# Altium footprint library 15_to_28_Pin.PcbLib: 49 footprints (part 3 of 4)
Each footprint in its own frame and in the unit in brackets; x right, y up, seen from the top. Pads: shape width x height; smd on the part's side, far side on the other; paste and mask are expansions set on the pad; w line width, h text height; cw(c..) or ccw(c..) is an arc to the next point about the centre after c.
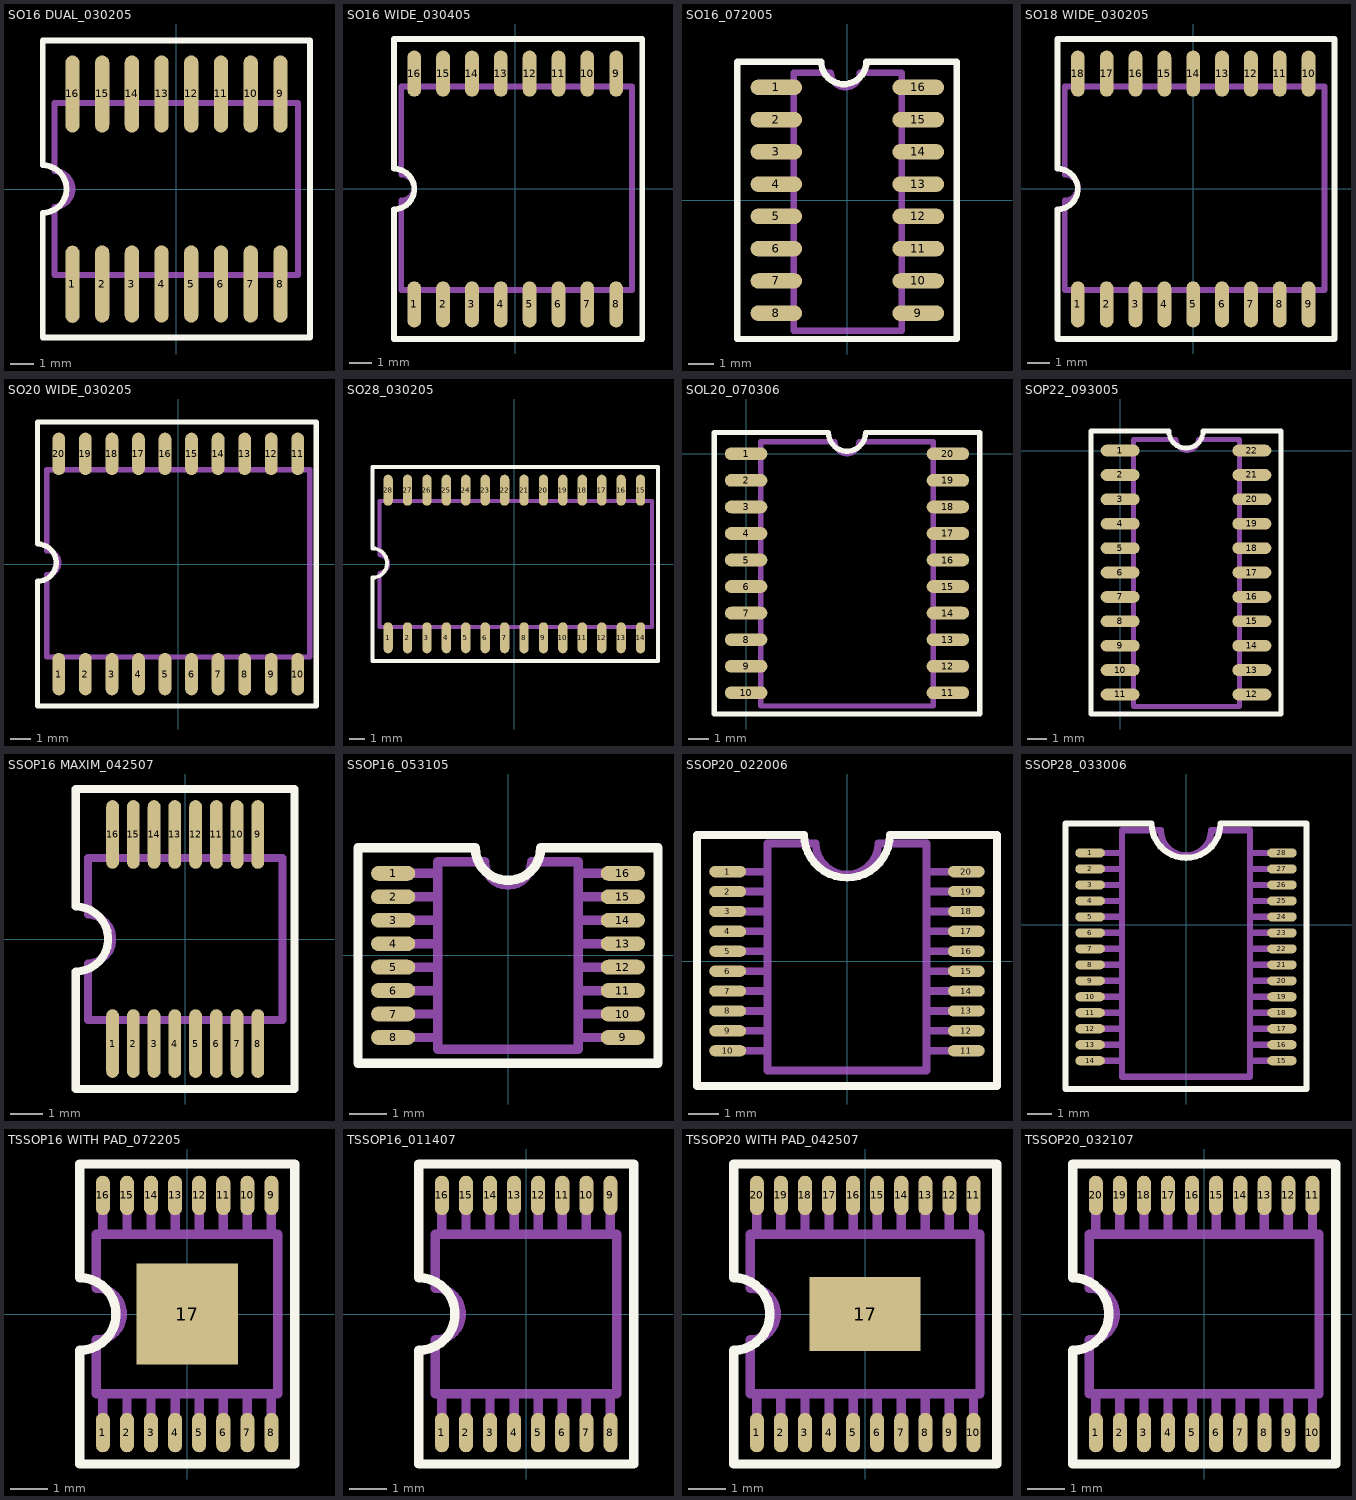
[diagram p2: the footprints below, top view; thin cyan lines are the x and y axes]

## SO16 DUAL_030205 [mil] "SMT"
height 100
pads (16):
  oval 24x130 smd mask+1.5: 1(-175,-160.16) 2(-125,-159.84) 3(-75,-159.84) 4(-25,-159.84) 5(25,-159.84) 6(75,-159.84) 7(125,-159.84) 8(175,-159.84) 9(175,160.16) 10(125,160.16) 11(75,160.16) 12(25,160.16) 13(-25,160.16) 14(-75,160.16) 15(-125,160.16) 16(-175,160.16)
Top Overlay:
  lines w10: -225,-249.84 225,-249.84 225,250.16 -225,250.16 -225,40.16 cw(c-225,0.16) -225,-39.84 -225,-249.84
Assembly Outline:
  lines w8: -175,-189.84 -175,-144.84 ; -175,145.16 -175,190.16 ; -125,-189.84 -125,-144.84 ; -125,145.16 -125,190.16 ; -75,-189.84 -75,-144.84 ; -75,145.16 -75,190.16 ; -25,-189.84 -25,-144.84 ; -25,145.16 -25,190.16 ; 25,-189.84 25,-144.84 ; 25,145.16 25,190.16 ; 75,-189.84 75,-144.84 ; 75,145.16 75,190.16 ; 125,-189.84 125,-144.84 ; 125,145.16 125,190.16 ; 175,-189.84 175,-144.84 ; 175,145.16 175,190.16
  lines w10: -205,-144.84 -205,-29.84 ccw(c-205,0.16) -205,30.16 -205,145.16 205,145.16 205,-144.84 -205,-144.84
Assembly Designator:
  text ".Designator" at -64,-13 h40
Assembly Comment:
  text ".Comment" at -157.48,-68.9 h40

## SO16 WIDE_030405 [mil] "SMT"
height 100
pads (16):
  oval 24x80 smd mask+1.5: 1(-175,-200) 2(-125,-200) 3(-75,-200) 4(-25,-200) 5(25,-200) 6(75,-200) 7(125,-200) 8(175,-200) 9(175,200) 10(125,200) 11(75,200) 12(25,200) 13(-25,200) 14(-75,200) 15(-125,200) 16(-175,200)
Top Overlay:
  lines w10: -210,-260 220,-260 220,260 -210,260 -210,35 cw(c-210,0) -210,-35 -210,-140 -210,-260
Assembly Outline:
  lines w10: -180,177.5 -180,205 -170,205 -170,177.5 ; -170,-175 -170,-202.5 -180,-202.5 -180,-175 ; -130,-175 -130,-202.5 -120,-202.5 -120,-175 ; -130,177.5 -130,205 -120,205 -120,177.5 ; -80,-175 -80,-202.5 -70,-202.5 -70,-175 ; -80,177.5 -80,205 -70,205 -70,177.5 ; -30,-175 -30,-202.5 -20,-202.5 -20,-175 ; -30,177.5 -30,205 -20,205 -20,177.5 ; 20,-175 20,-202.5 30,-202.5 30,-175 ; 20,177.5 20,205 30,205 30,177.5 ; 70,-175 70,-202.5 80,-202.5 80,-175 ; 70,177.5 70,205 80,205 80,177.5 ; 120,-175 120,-202.5 130,-202.5 130,-175 ; 120,177.5 120,205 130,205 130,177.5 ; 170,-175 170,-202.5 180,-202.5 180,-175 ; 170,177.5 170,205 180,205 180,177.5 ; -180,-175 -197.5,-175 -197.5,-117.5 -197.5,-20 ccw(c-197.5,2.5) -197.5,25 -197.5,177.5 202.5,177.5 202.5,-175 -180,-175
Assembly Designator:
  text ".Designator" at -47,-15 h40
Assembly Comment:
  text ".Comment" at -166,-140 h40

## SO16_072005 [mil] "SM"
height 70
pads (16):
  oval 80x24 smd mask+1.5: 1(-110,175) 2(-110,125) 3(-110,75) 4(-110,25) 5(-110,-25) 6(-110,-75) 7(-110,-125) 8(-110,-175) 9(110,-175) 10(110,-125) 11(110,-75) 12(110,-25) 13(110,25) 14(110,75) 15(110,125) 16(110,175)
Top Overlay:
  lines w10: -170.46,-215 169.54,-215 169.54,215 29.54,215 cw(c-5.46,215) -40.46,215 -170.46,215 -170.46,-215
Assembly Outline:
  lines w10: -82.96,-180 -110.46,-180 -110.46,-170 -82.96,-170 ; -82.96,-130 -110.46,-130 -110.46,-120 -82.96,-120 ; -82.96,-80 -110.46,-80 -110.46,-70 -82.96,-70 ; -82.96,-30 -110.46,-30 -110.46,-20 -82.96,-20 ; -82.96,20 -110.46,20 -110.46,30 -82.96,30 ; -82.96,70 -110.46,70 -110.46,80 -82.96,80 ; -82.96,120 -110.46,120 -110.46,130 -82.96,130 ; -82.96,170 -110.46,170 -110.46,180 -82.96,180 ; 84.54,-180 112.04,-180 112.04,-170 84.54,-170 ; 84.54,-130 112.04,-130 112.04,-120 84.54,-120 ; 84.54,-80 112.04,-80 112.04,-70 84.54,-70 ; 84.54,-30 112.04,-30 112.04,-20 84.54,-20 ; 84.54,20 112.04,20 112.04,30 84.54,30 ; 84.54,70 112.04,70 112.04,80 84.54,80 ; 84.54,120 112.04,120 112.04,130 84.54,130 ; 84.54,170 112.04,170 112.04,180 84.54,180 ; -82.96,180 -82.96,-202.5 84.54,-202.5 84.54,197.5 19.54,197.5 cw(c-2.96,197.5) -25.46,197.5 -82.96,197.5 -82.96,180
Assembly Designator:
  text ".Designator" at -47.46,-13.98 h40
Assembly Comment:
  text ".Comment" at -149.83,-262.01 h40

## SO18 WIDE_030205 [mil] "SMT"
height 100
pads (18):
  oval 24x80 smd mask+1.5: 1(-200,-200) 2(-150,-200) 3(-100,-200) 4(-50,-200) 5(0,-200) 6(50,-200) 7(100,-200) 8(150,-200) 9(200,-200) 10(200,200) 11(150,200) 12(100,200) 13(50,200) 14(0,200) 15(-50,200) 16(-100,200) 17(-150,200) 18(-200,200)
Top Overlay:
  lines w10: -235,-260 -235,-140 -235,-35 ccw(c-235,0) -235,35 -235,260 245,260 245,-260 -235,-260
Assembly Outline:
  lines w10: -205,177.5 -205,205 -195,205 -195,177.5 ; -195,-175 -195,-202.5 -205,-202.5 -205,-175 ; -155,-175 -155,-202.5 -145,-202.5 -145,-175 ; -155,177.5 -155,205 -145,205 -145,177.5 ; -105,-175 -105,-202.5 -95,-202.5 -95,-175 ; -105,177.5 -105,205 -95,205 -95,177.5 ; -55,-175 -55,-202.5 -45,-202.5 -45,-175 ; -55,177.5 -55,205 -45,205 -45,177.5 ; -5,-175 -5,-202.5 5,-202.5 5,-175 ; -5,177.5 -5,205 5,205 5,177.5 ; 45,-175 45,-202.5 55,-202.5 55,-175 ; 45,177.5 45,205 55,205 55,177.5 ; 95,-175 95,-202.5 105,-202.5 105,-175 ; 95,177.5 95,205 105,205 105,177.5 ; 195,-175 195,-202.5 205,-202.5 205,-175 ; 195,177.5 195,205 205,205 205,177.5 ; -205,-175 227.5,-175 227.5,177.5 -222.5,177.5 -222.5,25 cw(c-222.5,2.5) -222.5,-20 -222.5,-117.5 -222.5,-175 -205,-175 ; 145,-202.5 155,-202.5 ; 145,-202.5 145,-175 145,-202.5 ; 145,-202.5 155,-202.5 ; 145,205 155,205 ; 145,205 145,177.5 145,205 ; 145,205 155,205 ; 155,-202.5 155,-175 155,-202.5 ; 155,205 155,177.5 155,205
Assembly Designator:
  text ".Designator" at -63,-15 h40
Assembly Comment:
  text ".Comment" at -202,-143 h40

## SO20 WIDE_030205 [mil] "SMT"
height 100
pads (20):
  oval 24x80 smd mask+1.5: 1(-225,-207.5) 2(-175,-207.5) 3(-125,-207.5) 4(-75,-207.5) 5(-25,-207.5) 6(25,-207.5) 7(75,-207.5) 8(125,-207.5) 9(175,-207.5) 10(225,-207.5) 11(225,207.5) 12(175,207.5) 13(125,207.5) 14(75,207.5) 15(25,207.5) 16(-25,207.5) 17(-75,207.5) 18(-125,207.5) 19(-175,207.5) 20(-225,207.5)
Top Overlay:
  lines w10: -265,-267.5 -265,-147.5 -265,-32.5 ccw(c-265,2.5) -265,37.5 -265,267.5 260,267.5 260,-267.5 -265,-267.5
Assembly Outline:
  lines w10: -230,177.5 -230,205 -220,205 -220,177.5 ; -220,-175 -220,-202.5 -230,-202.5 -230,-175 ; -180,-175 -180,-202.5 -170,-202.5 -170,-175 ; -180,177.5 -180,205 -170,205 -170,177.5 ; -130,-175 -130,-202.5 -120,-202.5 -120,-175 ; -130,177.5 -130,205 -120,205 -120,177.5 ; -80,-175 -80,-202.5 -70,-202.5 -70,-175 ; -80,177.5 -80,205 -70,205 -70,177.5 ; -30,-175 -30,-202.5 -20,-202.5 -20,-175 ; -30,177.5 -30,205 -20,205 -20,177.5 ; 20,-175 20,-202.5 30,-202.5 30,-175 ; 20,177.5 20,205 30,205 30,177.5 ; 70,-175 70,-202.5 80,-202.5 80,-175 ; 70,177.5 70,205 80,205 80,177.5 ; 120,-175 120,-202.5 130,-202.5 130,-175 ; 120,177.5 120,205 130,205 130,177.5 ; 170,-175 170,-202.5 180,-202.5 180,-175 ; 170,177.5 170,205 180,205 180,177.5 ; 220,-175 220,-202.5 230,-202.5 230,-175 ; 220,177.5 220,205 230,205 230,177.5 ; -230,-175 247.5,-175 247.5,177.5 -247.5,177.5 -247.5,25 cw(c-247.5,2.5) -247.5,-20 -247.5,-117.5 -247.5,-175 -230,-175
Assembly Designator:
  text ".Designator" at -72,-16 h40
Assembly Comment:
  text ".Comment" at -228,-142 h40

## SO28_030205 [mil] "SMT"
height 100
pads (28):
  oval 24x80 smd mask+1.5: 1(-325,-190) 2(-275,-190) 3(-225,-190) 4(-175,-190) 5(-125,-190) 6(-75,-190) 7(-25,-190) 8(25,-190) 9(75,-190) 10(125,-190) 11(175,-190) 12(225,-190) 13(275,-190) 14(325,-190) 15(325,190) 16(275,190) 17(225,190) 18(175,190) 19(125,190) 20(75,190) 21(25,190) 22(-25,190) 23(-75,190) 24(-125,190) 25(-175,190) 26(-225,190) 27(-275,190) 28(-325,190)
Top Overlay:
  lines w10: -365,-250 370,-250 370,250 -365,250 -365,40 cw(c-365,2.5) -365,-35 -365,-250
Assembly Outline:
  lines w10: -330,162.5 -330,190 -320,190 -320,162.5 ; -320,-162.5 -320,-190 -330,-190 -330,-162.5 ; -280,-162.5 -280,-190 -270,-190 -270,-162.5 ; -280,162.5 -280,190 -270,190 -270,162.5 ; -230,-162.5 -230,-190 -220,-190 -220,-162.5 ; -230,162.5 -230,190 -220,190 -220,162.5 ; -180,-162.5 -180,-190 -170,-190 -170,-162.5 ; -180,162.5 -180,190 -170,190 -170,162.5 ; -130,-162.5 -130,-190 -120,-190 -120,-162.5 ; -130,162.5 -130,190 -120,190 -120,162.5 ; -80,-162.5 -80,-190 -70,-190 -70,-162.5 ; -80,162.5 -80,190 -70,190 -70,162.5 ; -30,-162.5 -30,-190 -20,-190 -20,-162.5 ; -30,162.5 -30,190 -20,190 -20,162.5 ; 20,-162.5 20,-190 30,-190 30,-162.5 ; 20,162.5 20,190 30,190 30,162.5 ; 70,-162.5 70,-190 80,-190 80,-162.5 ; 70,162.5 70,190 80,190 80,162.5 ; 120,-162.5 120,-190 130,-190 130,-162.5 ; 120,162.5 120,190 130,190 130,162.5 ; 170,-162.5 170,-190 180,-190 180,-162.5 ; 170,162.5 170,190 180,190 180,162.5 ; 220,-162.5 220,-190 230,-190 230,-162.5 ; 220,162.5 220,190 230,190 230,162.5 ; 270,-162.5 270,-190 280,-190 280,-162.5 ; 270,162.5 270,190 280,190 280,162.5 ; 320,-162.5 320,-190 330,-190 330,-162.5 ; 320,162.5 320,190 330,190 330,162.5 ; -330,-162.5 355,-162.5 355,162.5 -347.5,162.5 -347.5,22.5 cw(c-347.5,0) -347.5,-22.5 -347.5,-162.5 -330,-162.5
Assembly Designator:
  text ".Designator" at -62,-15 h40
Assembly Comment:
  text ".Comment" at -315,-128 h40

## SOL20_070306 [mil] "SMT"
pads (20):
  oval 80x24 smd: 1(0.01,0) 2(0.01,-50) 3(0.01,-100) 4(0.01,-150) 5(0.01,-200) 6(0.01,-250) 7(0.01,-300) 8(0.01,-350) 9(0.01,-400) 10(0.01,-450) 11(380.01,-450) 12(380.01,-400) 13(380.01,-350) 14(380.01,-300) 15(380.01,-250) 16(380.01,-200) 17(380.01,-150) 18(380.01,-100) 19(380.01,-50) 20(380.01,0)
Top Overlay:
  lines w10: -60,-490 440,-490 440,40 225,40 cw(c190,40) 155,40 -60,40 -60,-490
Assembly Outline:
  lines w10: 27.5,-455 0,-455 0,-445 27.5,-445 ; 27.5,-405 0,-405 0,-395 27.5,-395 ; 27.5,-355 0,-355 0,-345 27.5,-345 ; 27.5,-305 0,-305 0,-295 27.5,-295 ; 27.5,-255 0,-255 0,-245 27.5,-245 ; 27.5,-205 0,-205 0,-195 27.5,-195 ; 27.5,-155 0,-155 0,-145 27.5,-145 ; 27.5,-105 0,-105 0,-95 27.5,-95 ; 27.5,-55 0,-55 0,-45 27.5,-45 ; 27.5,-5 0,-5 0,5 27.5,5 ; 352.5,-455 380,-455 380,-445 352.5,-445 ; 352.5,-405 380,-405 380,-395 352.5,-395 ; 352.5,-355 380,-355 380,-345 352.5,-345 ; 352.5,-305 380,-305 380,-295 352.5,-295 ; 352.5,-255 380,-255 380,-245 352.5,-245 ; 352.5,-205 380,-205 380,-195 352.5,-195 ; 352.5,-155 380,-155 380,-145 352.5,-145 ; 352.5,-105 380,-105 380,-95 352.5,-95 ; 352.5,-55 380,-55 380,-45 352.5,-45 ; 352.5,-5 380,-5 380,5 352.5,5 ; 27.5,5 27.5,-475 352.5,-475 352.5,22.5 212.5,22.5 cw(c190,22.5) 167.5,22.5 27.5,22.5 27.5,5

## SOP22_093005 [mil] "SMT"
height 70.87
pads (22):
  oval 80x24 smd mask+1.5: 1(0,0) 2(0,-50) 3(0,-100) 4(0,-150) 5(0,-200) 6(0,-250) 7(0,-300) 8(0,-350) 9(0,-400) 10(0,-450) 11(0,-500) 12(270,-500) 13(270,-450) 14(270,-400) 15(270,-350) 16(270,-300) 17(270,-250) 18(270,-200) 19(270,-150) 20(270,-100) 21(270,-50) 22(270,0)
Top Overlay:
  lines w10: -60,-540 330,-540 330,-490 330,40 170,40 cw(c135,40) 100,40 -60,40 -60,-490 -60,-540
Assembly Outline:
  lines w10: 27.5,-505 0,-505 0,-495 27.5,-495 ; 27.5,-455 0,-455 0,-445 27.5,-445 ; 27.5,-405 0,-405 0,-395 27.5,-395 ; 27.5,-355 0,-355 0,-345 27.5,-345 ; 27.5,-305 0,-305 0,-295 27.5,-295 ; 27.5,-255 0,-255 0,-245 27.5,-245 ; 27.5,-205 0,-205 0,-195 27.5,-195 ; 27.5,-155 0,-155 0,-145 27.5,-145 ; 27.5,-105 0,-105 0,-95 27.5,-95 ; 27.5,-55 0,-55 0,-45 27.5,-45 ; 27.5,-5 0,-5 0,5 27.5,5 ; 245,-505 272.5,-505 272.5,-495 245,-495 ; 245,-455 272.5,-455 272.5,-445 245,-445 ; 245,-405 272.5,-405 272.5,-395 245,-395 ; 245,-355 272.5,-355 272.5,-345 245,-345 ; 245,-305 272.5,-305 272.5,-295 245,-295 ; 245,-255 272.5,-255 272.5,-245 245,-245 ; 245,-205 272.5,-205 272.5,-195 245,-195 ; 245,-155 272.5,-155 272.5,-145 245,-145 ; 245,-105 272.5,-105 272.5,-95 245,-95 ; 245,-55 272.5,-55 272.5,-45 245,-45 ; 245,-5 272.5,-5 272.5,5 245,5 ; 27.5,5 27.5,-475 27.5,-525 245,-525 245,-475 245,22.5 160,22.5 cw(c137.5,22.5) 115,22.5 27.5,22.5 27.5,5
Assembly Designator:
  text ".Designator" at 97.87,-260.08 h40
Assembly Comment:
  text ".Comment" at -45.28,-595.47 h40

## SSOP16 MAXIM_042507 [mm] "SSOP  16 Leads Pitch 0.65 mm"
height 1.99
pads (16):
  oval 0.4x2.15 smd mask+0.038: 1(-2.275,-3.275) 2(-1.625,-3.275) 3(-0.975,-3.275) 4(-0.325,-3.275) 5(0.325,-3.275) 6(0.975,-3.275) 7(1.625,-3.275) 8(2.275,-3.275) 9(2.275,3.275) 10(1.625,3.275) 11(0.975,3.275) 12(0.325,3.275) 13(-0.325,3.275) 14(-0.975,3.275) 15(-1.625,3.275) 16(-2.275,3.275)
Top Overlay:
  lines w0.254: -3.429,-4.699 -3.429,-1.016 ccw(c-3.429,0) -3.429,1.016 -3.429,4.699 0,4.699 3.429,4.699 3.429,0 3.429,-4.699 0,-4.699 -3.429,-4.699
Assembly Outline:
  lines w0.254: -2.275,-3.81 -2.275,-2.54 ; -2.275,2.54 -2.275,3.81 ; -1.625,-3.81 -1.625,-2.54 ; -1.625,2.54 -1.625,3.81 ; -0.975,-3.81 -0.975,-2.54 ; -0.975,2.54 -0.975,3.81 ; -0.325,-3.81 -0.325,-2.54 ; -0.325,2.54 -0.325,3.81 ; 0.325,-3.81 0.325,-2.54 ; 0.325,2.54 0.325,3.81 ; 0.975,-3.81 0.975,-2.54 ; 0.975,2.54 0.975,3.81 ; 1.625,-3.81 1.625,-2.54 ; 1.625,2.54 1.625,3.81 ; 2.275,-3.81 2.275,-2.54 ; 2.275,2.54 2.275,3.81 ; -3.048,-2.54 -3.048,-0.762 ccw(c-3.048,0) -3.048,0.762 -3.048,2.54 0,2.54 3.048,2.54 3.048,0 3.048,-2.54 0,-2.54 -3.048,-2.54
Assembly Designator:
  text ".Designator" at -1.016,-0.381 h1.02
Assembly Comment:
  text ".Comment" at -2.413,-1.778 h1.02

## SSOP16_053105 [mil] "SMT"
height 70
pads (16):
  oval 47.24x15.75 smd mask+1.5: 1(-122.5,87.5) 2(-122.5,62.5) 3(-122.5,37.5) 4(-122.5,12.5) 5(-122.5,-12.5) 6(-122.5,-37.5) 7(-122.5,-62.5) 8(-122.5,-87.5) 9(122.5,-87.5) 10(122.5,-62.5) 11(122.5,-37.5) 12(122.5,-12.5) 13(122.5,12.5) 14(122.5,37.5) 15(122.5,62.5) 16(122.5,87.5)
Top Overlay:
  lines w10: -160,-115 -160,0 -160,115 -35,115 ccw(c0,115) 35,115 160,115 160,0 160,-115 -60,-115 -160,-115
Assembly Outline:
  lines w10: -122.5,-87.5 -75,-87.5 ; -122.5,-62.5 -75,-62.5 ; -122.5,-37.5 -75,-37.5 ; -122.5,-12.5 -75,-12.5 ; -122.5,12.5 -75,12.5 ; -122.5,37.5 -75,37.5 ; -122.5,62.5 -75,62.5 ; -122.5,87.5 -75,87.5 ; 75,-87.5 122.5,-87.5 ; 75,-62.5 122.5,-62.5 ; 75,-37.5 122.5,-37.5 ; 75,-12.5 122.5,-12.5 ; 75,12.5 122.5,12.5 ; 75,37.5 122.5,37.5 ; 75,62.5 122.5,62.5 ; 75,87.5 122.5,87.5 ; -75,-100 75,-100 75,0 75,100 25,100 cw(c0,100) -25,100 -75,100 -75,-100
Assembly Designator:
  text ".Designator" at -35,-15 h40
Assembly Comment:
  text ".Comment" at -155,-150 h40

## SSOP20_022006 [mm] "SMT"
height 2
pads (20):
  oval 1.2x0.37 smd mask+0.038: 1(-3.9,2.925) 2(-3.9,2.275) 3(-3.9,1.625) 4(-3.9,0.975) 5(-3.9,0.325) 6(-3.9,-0.325) 7(-3.9,-0.975) 8(-3.9,-1.625) 9(-3.9,-2.275) 10(-3.9,-2.925) 11(3.9,-2.925) 12(3.9,-2.275) 13(3.9,-1.625) 14(3.9,-0.975) 15(3.9,-0.325) 16(3.9,0.325) 17(3.9,0.975) 18(3.9,1.625) 19(3.9,2.275) 20(3.9,2.925)
Top Overlay:
  lines w0.254: -4.9,-4.075 4.9,-4.075 4.9,4.125 1.4,4.125 cw(c0,4.125) -1.4,4.125 -4.9,4.125 -4.9,-4.075
Assembly Outline:
  lines w0.254: -3.9,-2.925 -2.6,-2.925 ; -3.9,-2.275 -2.6,-2.275 ; -3.9,-1.625 -2.6,-1.625 ; -3.9,-0.975 -2.6,-0.975 ; -3.9,-0.325 -2.6,-0.325 ; -3.9,0.325 -2.6,0.325 ; -3.9,0.975 -2.6,0.975 ; -3.9,1.625 -2.6,1.625 ; -3.9,2.275 -2.6,2.275 ; -3.9,2.925 -2.6,2.925 ; -2.6,-1.305 -2.6,3.845 ; 2.6,-2.925 3.9,-2.925 ; 2.6,-1.625 3.9,-1.625 ; 2.6,-0.975 3.9,-0.975 ; 2.6,-0.325 3.9,-0.325 ; 2.6,0.325 3.9,0.325 ; 2.6,0.975 3.9,0.975 ; 2.6,1.625 3.9,1.625 ; 2.6,2.275 3.9,2.275 ; 2.6,2.925 3.9,2.925 ; 3.9,-2.275 2.6,-2.275 ; -2.6,-2.275 -2.6,-3.575 2.6,-3.575 2.6,-2.275 ; -2.6,-2.275 -2.6,3.845 ; -2.6,3.845 -1.02,3.845 ccw(c0,3.845) 1.02,3.845 2.6,3.845 2.6,-2.275
Assembly Designator:
  text ".Designator" at -1.1,-0.475 h1.02
Assembly Comment:
  text ".Comment" at -4.55,-5.375 h1.02

## SSOP28_033006 [mm] "SMT"
height 2
pads (28):
  oval 1.2x0.37 smd mask+0.038: 1(-3.9,2.925) 2(-3.9,2.275) 3(-3.9,1.625) 4(-3.9,0.975) 5(-3.9,0.325) 6(-3.9,-0.325) 7(-3.9,-0.975) 8(-3.9,-1.625) 9(-3.9,-2.275) 10(-3.9,-2.925) 11(-3.9,-3.575) 12(-3.9,-4.225) 13(-3.9,-4.875) 14(-3.9,-5.525) 15(3.9,-5.525) 16(3.9,-4.875) 17(3.9,-4.225) 18(3.9,-3.575) 19(3.9,-2.925) 20(3.9,-2.275) 21(3.9,-1.625) 22(3.9,-0.975) 23(3.9,-0.325) 24(3.9,0.325) 25(3.9,0.975) 26(3.9,1.625) 27(3.9,2.275) 28(3.9,2.925)
Top Overlay:
  lines w0.254: -4.9,-6.675 -4.9,-4.075 -4.9,4.125 -1.4,4.125 ccw(c0,4.125) 1.4,4.125 4.9,4.125 4.9,-4.075 4.9,-6.675 -4.9,-6.675
Assembly Outline:
  lines w0.254: -3.9,-5.525 -2.6,-5.525 ; -3.9,-4.875 -2.6,-4.875 ; -3.9,-4.225 -2.6,-4.225 ; -3.9,-3.575 -2.6,-3.575 ; -3.9,-2.275 -2.6,-2.275 ; -3.9,-1.625 -2.6,-1.625 ; -3.9,-0.975 -2.6,-0.975 ; -3.9,-0.325 -2.6,-0.325 ; -3.9,0.325 -2.6,0.325 ; -3.9,0.975 -2.6,0.975 ; -3.9,1.625 -2.6,1.625 ; -3.9,2.275 -2.6,2.275 ; -3.9,2.925 -2.6,2.925 ; -2.6,-1.305 -2.6,3.845 ; 2.6,-5.525 3.9,-5.525 ; 2.6,-4.225 3.9,-4.225 ; 2.6,-1.625 3.9,-1.625 ; 2.6,-0.975 3.9,-0.975 ; 2.6,-0.325 3.9,-0.325 ; 2.6,0.325 3.9,0.325 ; 2.6,0.975 3.9,0.975 ; 2.6,1.625 3.9,1.625 ; 2.6,2.275 3.9,2.275 ; 2.6,2.925 3.9,2.925 ; 3.9,-4.875 2.6,-4.875 ; 3.9,-3.575 2.6,-3.575 ; 3.9,-2.275 2.6,-2.275 ; -2.6,-4.875 -2.6,-3.575 ; -2.6,-4.875 -2.6,-6.175 2.6,-6.175 2.6,-4.875 ; -2.6,-3.575 -2.6,-2.275 ; -2.6,-2.275 -2.6,3.845 ; -2.6,3.845 -1.02,3.845 ccw(c0,3.845) 1.02,3.845 2.6,3.845 2.6,-2.275 ; 2.6,-4.875 2.6,-3.575 ; 2.6,-3.575 2.6,-2.275 ; -3.9,-2.925 -2.6,-2.925 -3.9,-2.925 ; 2.6,-2.925 3.9,-2.925 2.6,-2.925
Assembly Designator:
  text ".Designator" at -0.762,-1.651 h1.02
Assembly Comment:
  text ".Comment" at -4.191,-8.128 h1.02

## TSSOP16 WITH PAD_072205 [mm] "SMT"
height 1.2
pads (17):
  oval 0.381x1.067 smd mask+0.025: 1(-2.275,-3.2) 2(-1.625,-3.2) 3(-0.975,-3.2) 4(-0.325,-3.2) 5(0.325,-3.2) 6(0.975,-3.2) 7(1.625,-3.2) 8(2.275,-3.2) 9(2.275,3.2) 10(1.625,3.2) 11(0.975,3.2) 12(0.325,3.2) 13(-0.325,3.2) 14(-0.975,3.2) 15(-1.625,3.2) 16(-2.275,3.2)
  rect 2.74x2.74 smd mask+0.025: 17(0,0)
Top Overlay:
  lines w0.254: -2.9,-4.05 -2.9,-0.98 ccw(c-2.9,0) -2.9,0.98 -2.9,4.05 0,4.05 2.9,4.05 2.9,0 2.9,-4.05 0,-4.05 -2.9,-4.05
Assembly Outline:
  lines w0.254: -2.275,-3.2 -2.275,-2.15 ; -2.275,2.15 -2.275,3.2 ; -1.625,-3.2 -1.625,-2.15 ; -1.625,2.15 -1.625,3.2 ; -0.975,-3.2 -0.975,-2.15 ; -0.975,2.15 -0.975,3.2 ; -0.325,-3.2 -0.325,-2.15 ; -0.325,2.15 -0.325,3.2 ; 0.325,-3.2 0.325,-2.15 ; 0.325,2.15 0.325,3.2 ; 0.975,-3.2 0.975,-2.15 ; 0.975,2.15 0.975,3.2 ; 1.625,-3.2 1.625,-2.15 ; 1.625,2.15 1.625,3.2 ; 2.275,-3.2 2.275,-2.15 ; 2.275,2.15 2.275,3.2 ; -2.45,-2.15 -2.45,-0.7 ccw(c-2.45,0) -2.45,0.7 -2.45,2.15 0,2.15 2.45,2.15 2.45,0 2.45,-2.15 0,-2.15 -2.45,-2.15
Assembly Designator:
  text ".Designator" at -0.625,-0.4 h1.02
Assembly Comment:
  text ".Comment" at -2.65,-5.3 h1.02

## TSSOP16_011407 [mil] "SMT"
height 43.31
pads (16):
  oval 15x42 smd mask+1: 1(-89.57,-125.98) 2(-63.98,-125.98) 3(-38.39,-125.98) 4(-12.8,-125.98) 5(12.8,-125.98) 6(38.39,-125.98) 7(63.98,-125.98) 8(89.57,-125.98) 9(89.57,125.98) 10(63.98,125.98) 11(38.39,125.98) 12(12.8,125.98) 13(-12.8,125.98) 14(-38.39,125.98) 15(-63.98,125.98) 16(-89.57,125.98)
Top Overlay:
  lines w10: -114.17,-159.45 -114.17,-38.59 ccw(c-114.17,0) -114.17,38.59 -114.17,159.45 0,159.45 114.17,159.45 114.17,0 114.17,-159.45 0,-159.45 -114.17,-159.45
Assembly Outline:
  lines w10: -89.57,-125.98 -89.57,-84.65 ; -89.57,84.65 -89.57,125.98 ; -63.98,-125.98 -63.98,-84.65 ; -63.98,84.65 -63.98,125.98 ; -38.39,-125.98 -38.39,-84.65 ; -38.39,84.65 -38.39,125.98 ; -12.8,-125.98 -12.8,-84.65 ; -12.8,84.65 -12.8,125.98 ; 12.8,-125.98 12.8,-84.65 ; 12.8,84.65 12.8,125.98 ; 38.39,-125.98 38.39,-84.65 ; 38.39,84.65 38.39,125.98 ; 63.98,-125.98 63.98,-84.65 ; 63.98,84.65 63.98,125.98 ; 89.57,-125.98 89.57,-84.65 ; 89.57,84.65 89.57,125.98 ; -96.46,-84.65 -96.46,-27.56 ccw(c-96.46,0) -96.46,27.56 -96.46,84.65 0,84.65 96.46,84.65 96.46,0 96.46,-84.65 0,-84.65 -96.46,-84.65
Assembly Designator:
  text ".Designator" at -24.61,-15.75 h40
Assembly Comment:
  text ".Comment" at -104.33,-208.66 h40

## TSSOP20 WITH PAD_042507 [mm] "SMT"
height 1.2
pads (21):
  oval 0.381x1.067 smd mask+0.025: 1(-2.925,-3.2) 2(-2.275,-3.2) 3(-1.625,-3.2) 4(-0.975,-3.2) 5(-0.325,-3.2) 6(0.325,-3.2) 7(0.975,-3.2) 8(1.625,-3.2) 9(2.275,-3.2) 10(2.925,-3.2) 11(2.925,3.2) 12(2.275,3.2) 13(1.625,3.2) 14(0.975,3.2) 15(0.325,3.2) 16(-0.325,3.2) 17(-0.975,3.2) 18(-1.625,3.2) 19(-2.275,3.2) 20(-2.925,3.2)
  rect 3x2 smd: 17(0,0)
Top Overlay:
  lines w0.254: -3.55,-4.05 -0.65,-4.05 2.25,-4.05 3.55,-4.05 3.55,0 3.55,4.05 2.25,4.05 -0.65,4.05 -3.55,4.05 -3.55,0.98 cw(c-3.55,0) -3.55,-0.98 -3.55,-4.05
Assembly Outline:
  lines w0.254: -2.925,-3.2 -2.925,-2.15 ; -2.925,2.15 -2.925,3.2 ; -2.275,-3.2 -2.275,-2.15 ; -2.275,2.15 -2.275,3.2 ; -1.625,-3.2 -1.625,-2.15 ; -1.625,2.15 -1.625,3.2 ; -0.975,-3.2 -0.975,-2.15 ; -0.975,2.15 -0.975,3.2 ; -0.325,-3.2 -0.325,-2.15 ; -0.325,2.15 -0.325,3.2 ; 0.325,-3.2 0.325,-2.15 ; 0.325,2.15 0.325,3.2 ; 0.975,-3.2 0.975,-2.15 ; 0.975,2.15 0.975,3.2 ; 1.625,-3.2 1.625,-2.15 ; 1.625,2.15 1.625,3.2 ; 2.275,-3.2 2.275,-2.15 ; 2.275,2.15 2.275,3.2 ; 2.925,-3.2 2.925,-2.15 ; 2.925,2.15 2.925,3.2 ; -3.1,-2.15 -0.65,-2.15 1.8,-2.15 3.1,-2.15 3.1,0 3.1,2.15 1.8,2.15 -0.65,2.15 -3.1,2.15 -3.1,0.7 cw(c-3.1,0) -3.1,-0.7 -3.1,-2.15
Assembly Designator:
  text ".Designator" at -1.275,-0.4 h1.02
Assembly Comment:
  text ".Comment" at -3.3,-5.3 h1.02

## TSSOP20_032107 [mm] "SMT"
height 1.1
pads (20):
  oval 0.381x1.067 smd mask+0.025: 1(-2.925,-3.2) 2(-2.275,-3.2) 3(-1.625,-3.2) 4(-0.975,-3.2) 5(-0.325,-3.2) 6(0.325,-3.2) 7(0.975,-3.2) 8(1.625,-3.2) 9(2.275,-3.2) 10(2.925,-3.2) 11(2.925,3.2) 12(2.275,3.2) 13(1.625,3.2) 14(0.975,3.2) 15(0.325,3.2) 16(-0.325,3.2) 17(-0.975,3.2) 18(-1.625,3.2) 19(-2.275,3.2) 20(-2.925,3.2)
Top Overlay:
  lines w0.254: -3.55,-4.05 -0.65,-4.05 2.25,-4.05 3.55,-4.05 3.55,0 3.55,4.05 2.25,4.05 -0.65,4.05 -3.55,4.05 -3.55,0.98 cw(c-3.55,0) -3.55,-0.98 -3.55,-4.05
Assembly Outline:
  lines w0.254: -2.925,-3.2 -2.925,-2.15 ; -2.925,2.15 -2.925,3.2 ; -2.275,-3.2 -2.275,-2.15 ; -2.275,2.15 -2.275,3.2 ; -1.625,-3.2 -1.625,-2.15 ; -1.625,2.15 -1.625,3.2 ; -0.975,-3.2 -0.975,-2.15 ; -0.975,2.15 -0.975,3.2 ; -0.325,-3.2 -0.325,-2.15 ; -0.325,2.15 -0.325,3.2 ; 0.325,-3.2 0.325,-2.15 ; 0.325,2.15 0.325,3.2 ; 0.975,-3.2 0.975,-2.15 ; 0.975,2.15 0.975,3.2 ; 1.625,-3.2 1.625,-2.15 ; 1.625,2.15 1.625,3.2 ; 2.275,-3.2 2.275,-2.15 ; 2.275,2.15 2.275,3.2 ; 2.925,-3.2 2.925,-2.15 ; 2.925,2.15 2.925,3.2 ; -3.1,-2.15 -0.65,-2.15 1.8,-2.15 3.1,-2.15 3.1,0 3.1,2.15 1.8,2.15 -0.65,2.15 -3.1,2.15 -3.1,0.7 cw(c-3.1,0) -3.1,-0.7 -3.1,-2.15
Assembly Designator:
  text ".Designator" at -1.275,-0.4 h1.02
Assembly Comment:
  text ".Comment" at -3.3,-5.3 h1.02